# EAGLE library part GRAYHILL_KEYPAD_4X5 (library keypad_5x4)
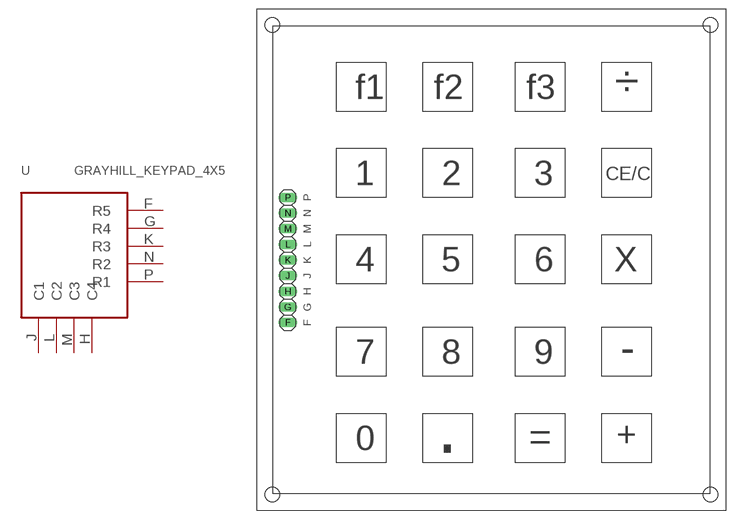
[diagram p0: symbol with the pads of GRAYHILL_KEYPAD5X4; footprint GRAYHILL_KEYPAD5X4]

Designator prefix -

## GRAYHILL_KEYPAD_4X5  [GRAYHILL_KEYPAD5X4]
F  R5
G  R4
H  C4
J  C1
K  R3
L  C2
M  C3
N  R2
P  R1

## Footprint GRAYHILL_KEYPAD5X4 (pad centres in mm)
drill 1.016 long: F 5.065,30.48; G 5.065,32.988; H 5.065,35.528; J 5.065,38.068; K 5.065,40.608; L 5.065,43.148; M 5.065,45.688; N 5.065,48.228; P 5.065,50.768
hole 2.4 at 2.55,2.55
hole 2.4 at 73.65,2.55
hole 2.4 at 73.65,78.75
hole 2.4 at 2.55,78.75